# Altium schematic symbol library SCH - RF - MODULE - Silicon SI4684-A10-GM.Schlib: 1 symbol
Pins are listed as number, name and electrical type; pins without a type are passive.

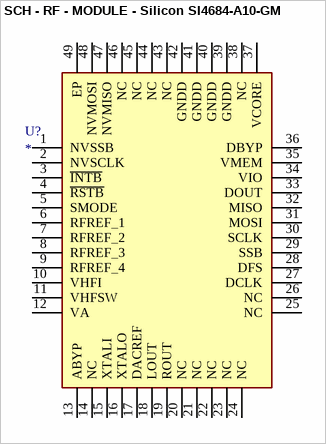
[diagram p0: symbol SCH - RF - MODULE - Silicon SI4684-A10-GM]

## SCH - RF - MODULE - Silicon SI4684-A10-GM
designator U?
footprint QFN50P700X700X90-49N
pins: 1 NVSSB, 2 NVSCLK, 3 ~{INTB}, 4 ~{RSTB}, 5 SMODE, 6 RFREF_1, 7 RFREF_2, 8 RFREF_3, 9 RFREF_4, 10 VHFI, 11 VHFSW, 12 VA, 13 ABYP, 14 NC, 15 XTALI, 16 XTALO, 17 DACREF, 18 LOUT, 19 ROUT, 20 NC, 21 NC, 22 NC, 23 NC, 24 NC, 25 NC, 26 NC, 27 DCLK, 28 DFS, 29 SSB, 30 SCLK, 31 MOSI, 32 MISO, 33 DOUT, 34 VIO, 35 VMEM, 36 DBYP, 37 VCORE, 38 NC, 39 GNDD, 40 GNDD, 41 GNDD, 42 GNDD, 43 NC, 44 NC, 45 NC, 46 NC, 47 NVMISO, 48 NVMOSI, 49 EP